# Altium footprint library 3_header.PcbLib: 1 footprints
Each footprint in its own frame and in the unit in brackets; x right, y up, seen from the top. Pads: shape width x height; smd on the part's side, far side on the other; paste and mask are expansions set on the pad; w line width, h text height; cw(c..) or ccw(c..) is an arc to the next point about the centre after c.
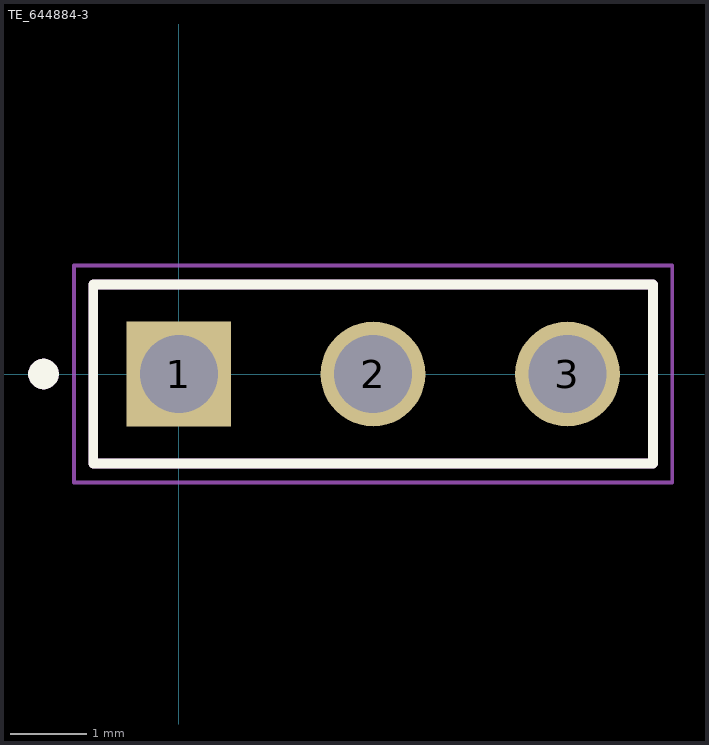
[diagram p0: the footprint, top view; thin cyan lines are the x and y axes]

## TE_644884-3 [mm]
pads (3):
  rect 1.37x1.37 / inner round 1.37 / far side rect 1.37x1.37 hole 1.02 mask+0.102: 1(0,0)
  round 1.37 hole 1.02 mask+0.102: 2(2.54,0) 3(5.08,0)
Top Overlay:
  circle w0.2: c-1.77,0 r0.1
  lines w0.127: -1.12,-1.17 -1.12,1.17 6.2,1.17 6.2,-1.17 -1.12,-1.17
Assembly Top:
  circle w0.2: c-1.77,0 r0.1
  lines w0.127: -1.12,-1.17 -1.12,1.17 6.2,1.17 6.2,-1.17 ; -1.12,-1.17 6.2,-1.17 ; -1.12,-1.17 6.2,-1.17
Courtyard Top:
  lines w0.05: -1.37,-1.42 -1.37,1.42 6.45,1.42 6.45,-1.42 -1.37,-1.42
3D body "step_temp.STEP": height 5.46, standoff -7.37, extent -1.143,-1.168 6.172,1.168